# EAGLE library part 20021121-00010T4LF (library 20021121-00010T4LF)
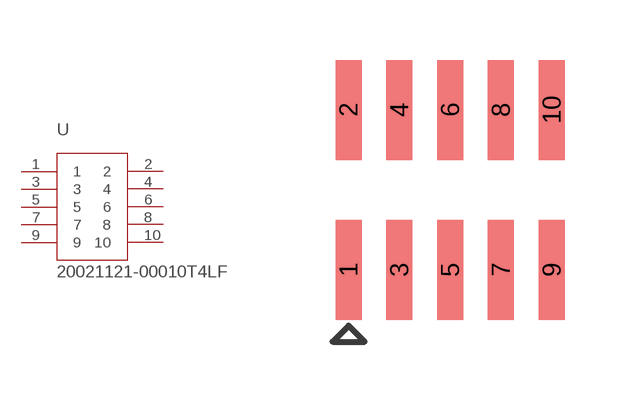
[diagram p0: symbol with the pads of 20021121-00010T4LF; footprint 20021121-00010T4LF]

Designator prefix -

## 20021121-00010T4LF  [20021121-00010T4LF]
1  1
2  2
3  3
4  4
5  5
6  6
7  7
8  8
9  9
10  10

## Footprint 20021121-00010T4LF (pad centres in mm)
smd 0.65 x 2.5: 1 0,0; 2 0,4; 3 1.27,0; 4 1.27,4; 5 2.54,0; 6 2.54,4; 7 3.81,0; 8 3.81,4; 9 5.08,0; 10 5.08,4